# EAGLE library part LCD (library SmallRoomLabs)
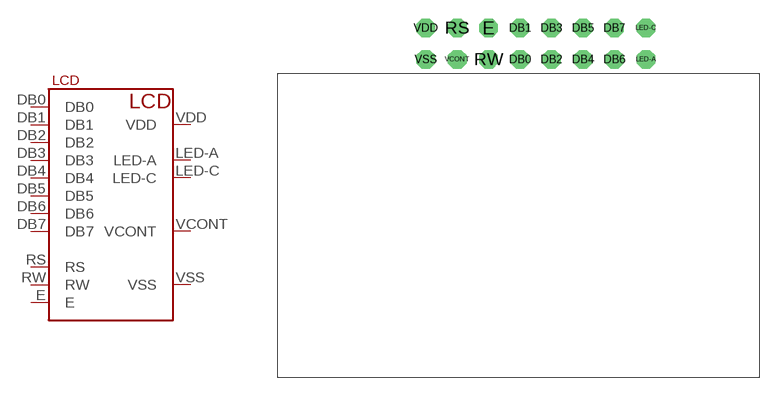
[diagram p18: symbol with the pads of RT082A; footprint RT082A]

Designator prefix LCD

## LCD_1X8  [RT082A]
DB0  DB0
DB1  DB1
DB2  DB2
DB3  DB3
DB4  DB4
DB5  DB5
DB6  DB6
DB7  DB7
E  E
LED-A  LED-A
LED-C  LED-C
RS  RS
RW  RW
VCONT  VCONT
VDD  VDD
VSS  VSS

## Footprint RT082A (pad centres in mm)
drill 1 octagon: DB0 0.13,25.17; DB1 0.13,27.71; DB2 2.67,25.17; DB3 2.67,27.71; DB4 5.21,25.17; DB5 5.21,27.71; DB6 7.75,25.17; DB7 7.75,27.71; E -2.41,27.71; LED-A 10.29,25.17; LED-C 10.29,27.71; RS -4.95,27.71; RW -2.41,25.17; VCONT -4.95,25.17; VDD -7.49,27.71; VSS -7.49,25.17